# EAGLE library part TCAN1044VDRQ1 (library TCAN1044VDRQ1)
CAN Interface IC Automotive high speed CAN transceiver 8-SOIC -40 to 125 Source: Datasheet <https://www.ti.com/lit/gpn/TCAN1044V-Q1>
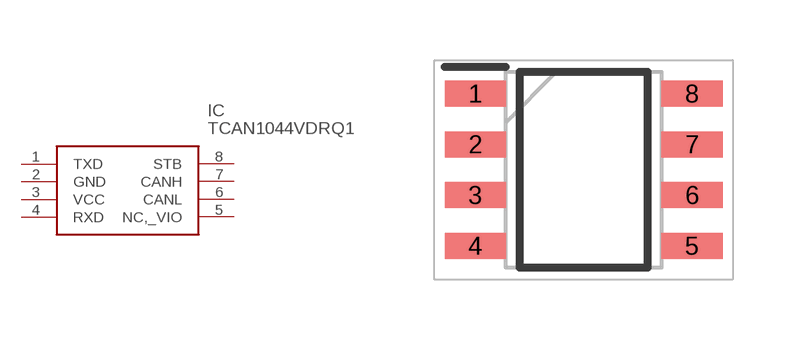
[diagram p0: symbol with the pads of SOIC127P600X175-8N; footprint SOIC127P600X175-8N]

Designator prefix IC

## TCAN1044VDRQ1 (Description: CAN Interface IC Automotive high speed CAN transceiver 8-SOIC -40 to 125; Height: 1.75mm; Manufacturer_Name: Texas Instruments; Manufacturer_Part_Number: TCAN1044VDRQ1; Mouser_Part_Number: 595-TCAN1044VDRQ1; Mouser_Price-Stock: https://www.mouser.com/Search/Refine.aspx?Keyword=595-TCAN1044VDRQ1)  [SOIC127P600X175-8N]
1  TXD
2  GND
3  VCC
4  RXD
5  NC,_VIO
6  CANL
7  CANH
8  STB

## Footprint SOIC127P600X175-8N (pad centres in mm)
8-Pin SOIC
smd 1.528 x 0.65: 1 -2.711,1.905; 2 -2.711,0.635; 3 -2.711,-0.635; 4 -2.711,-1.905; 5 2.711,-1.905; 6 2.711,-0.635; 7 2.711,0.635; 8 2.711,1.905